# EAGLE library part A2F500M3G (library MainBoard)
A2F500M3G FG256 SmartFusion A2F500M3G device in FG256 package with organized block symbols Sources: A2F500M3-FG256 BSDL <http://www.actel.com/documents/bsdl/A2F200M3F_FG256.bsd> Package Mechanical Drawings <http://www.actel.com/documents/PckgMechDrwngs.pdf> SmartFusion Intelligent Mixed Signal FPGAs Datasheet <http://www.actel.com/documents/SmartFusion_DS.pdf>
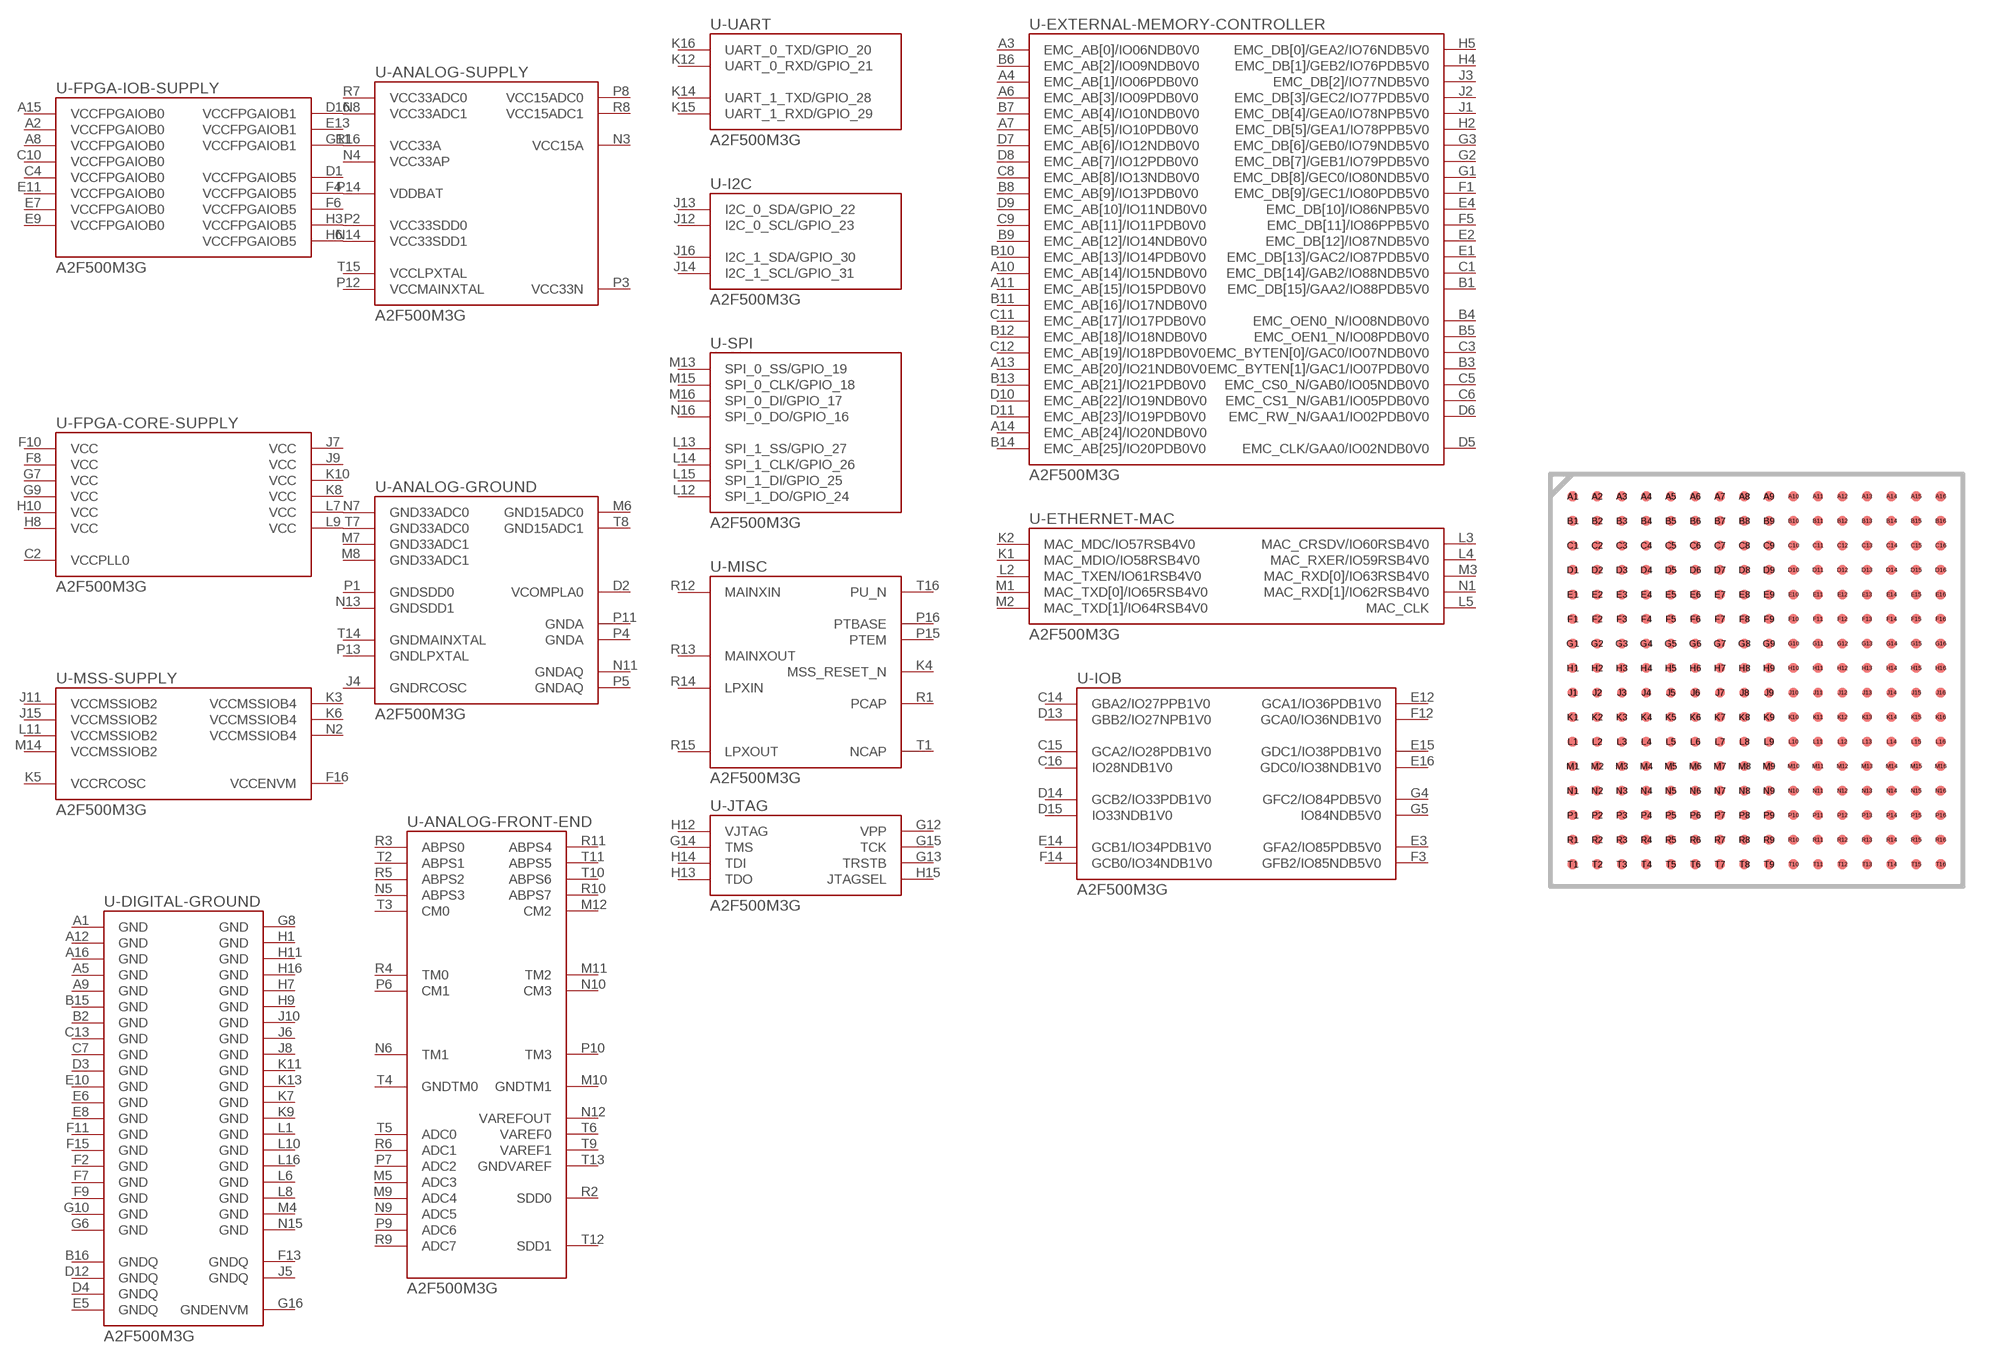
[diagram p3: symbol with the pads of FG256; footprint FG256]

Designator prefix U; gates -FPGA-IOB-SUPPLY=A2F500M3G-FPGA-IOB-SUPPLY -FPGA-CORE-SUPPLY=A2F500M3G-FPGA-CORE-SUPPLY -MSS-SUPPLY=A2F500M3G-MSS-SUPPLY -DIGITAL-GROUND=A2F500M3G-DIGITAL-GROUND -ANALOG-SUPPLY=A2F500M3G-ANALOG-SUPPLY -ANALOG-GROUND=A2F500M3G-ANALOG-GROUND -MISC=A2F500M3G-MISC -ANALOG-FRONT-END=A2F500M3G-ADC-DAC -JTAG=A2F500M3G-JTAG -EXTERNAL-MEMORY-CONTROLLER=A2F500M3G-EMC -UART=A2F500M3G-UART -I2C=A2F500M3G-I2C -SPI=A2F500M3G-SPI -ETHERNET-MAC=A2F500M3G-ETHERNET-MAC -IOB=A2F500M3G-IOB

## A2F500M3G-FGG256 (DIGI-KEY#: 1100-1009-ND; MF: Microsemi; MPN: A2F500M3G-FGG256; SPEED: 80 MHz), A2F500M3G-1FGG256 (DIGI-KEY#: 1100-1007-ND; MF: Microsemi; MPN: A2F500M3G-1FGG256; SPEED: 100 MHz)  [FG256]
A1  -DIGITAL-GROUND:GND  pwr
A2  -FPGA-IOB-SUPPLY:VCCFPGAIOB0  pwr
A3  -EXTERNAL-MEMORY-CONTROLLER:EMC_AB[0]/IO06NDB0V0
A4  -EXTERNAL-MEMORY-CONTROLLER:EMC_AB[1]/IO06PDB0V0
A5  -DIGITAL-GROUND:GND  pwr
A6  -EXTERNAL-MEMORY-CONTROLLER:EMC_AB[3]/IO09PDB0V0
A7  -EXTERNAL-MEMORY-CONTROLLER:EMC_AB[5]/IO10PDB0V0
A8  -FPGA-IOB-SUPPLY:VCCFPGAIOB0  pwr
A9  -DIGITAL-GROUND:GND  pwr
A10  -EXTERNAL-MEMORY-CONTROLLER:EMC_AB[14]/IO15NDB0V0
A11  -EXTERNAL-MEMORY-CONTROLLER:EMC_AB[15]/IO15PDB0V0
A12  -DIGITAL-GROUND:GND  pwr
A13  -EXTERNAL-MEMORY-CONTROLLER:EMC_AB[20]/IO21NDB0V0
A14  -EXTERNAL-MEMORY-CONTROLLER:EMC_AB[24]/IO20NDB0V0
A15  -FPGA-IOB-SUPPLY:VCCFPGAIOB0  pwr
A16  -DIGITAL-GROUND:GND  pwr
B1  -EXTERNAL-MEMORY-CONTROLLER:EMC_DB[15]/GAA2/IO88PDB5V0
B2  -DIGITAL-GROUND:GND  pwr
B3  -EXTERNAL-MEMORY-CONTROLLER:EMC_BYTEN[1]/GAC1/IO07PDB0V0
B4  -EXTERNAL-MEMORY-CONTROLLER:EMC_OEN0_N/IO08NDB0V0
B5  -EXTERNAL-MEMORY-CONTROLLER:EMC_OEN1_N/IO08PDB0V0
B6  -EXTERNAL-MEMORY-CONTROLLER:EMC_AB[2]/IO09NDB0V0
B7  -EXTERNAL-MEMORY-CONTROLLER:EMC_AB[4]/IO10NDB0V0
B8  -EXTERNAL-MEMORY-CONTROLLER:EMC_AB[9]/IO13PDB0V0
B9  -EXTERNAL-MEMORY-CONTROLLER:EMC_AB[12]/IO14NDB0V0
B10  -EXTERNAL-MEMORY-CONTROLLER:EMC_AB[13]/IO14PDB0V0
B11  -EXTERNAL-MEMORY-CONTROLLER:EMC_AB[16]/IO17NDB0V0
B12  -EXTERNAL-MEMORY-CONTROLLER:EMC_AB[18]/IO18NDB0V0
B13  -EXTERNAL-MEMORY-CONTROLLER:EMC_AB[21]/IO21PDB0V0
B14  -EXTERNAL-MEMORY-CONTROLLER:EMC_AB[25]/IO20PDB0V0
B15  -DIGITAL-GROUND:GND  pwr
B16  -DIGITAL-GROUND:GNDQ  pwr
C1  -EXTERNAL-MEMORY-CONTROLLER:EMC_DB[14]/GAB2/IO88NDB5V0
C2  -FPGA-CORE-SUPPLY:VCCPLL0  pwr
C3  -EXTERNAL-MEMORY-CONTROLLER:EMC_BYTEN[0]/GAC0/IO07NDB0V0
C4  -FPGA-IOB-SUPPLY:VCCFPGAIOB0  pwr
C5  -EXTERNAL-MEMORY-CONTROLLER:EMC_CS0_N/GAB0/IO05NDB0V0
C6  -EXTERNAL-MEMORY-CONTROLLER:EMC_CS1_N/GAB1/IO05PDB0V0
C7  -DIGITAL-GROUND:GND  pwr
C8  -EXTERNAL-MEMORY-CONTROLLER:EMC_AB[8]/IO13NDB0V0
C9  -EXTERNAL-MEMORY-CONTROLLER:EMC_AB[11]/IO11PDB0V0
C10  -FPGA-IOB-SUPPLY:VCCFPGAIOB0  pwr
C11  -EXTERNAL-MEMORY-CONTROLLER:EMC_AB[17]/IO17PDB0V0
C12  -EXTERNAL-MEMORY-CONTROLLER:EMC_AB[19]/IO18PDB0V0
C13  -DIGITAL-GROUND:GND  pwr
C14  -IOB:GBA2/IO27PPB1V0
C15  -IOB:GCA2/IO28PDB1V0
C16  -IOB:IO28NDB1V0
D1  -FPGA-IOB-SUPPLY:VCCFPGAIOB5  pwr
D2  -ANALOG-GROUND:VCOMPLA0  pwr
D3  -DIGITAL-GROUND:GND  pwr
D4  -DIGITAL-GROUND:GNDQ  pwr
D5  -EXTERNAL-MEMORY-CONTROLLER:EMC_CLK/GAA0/IO02NDB0V0
D6  -EXTERNAL-MEMORY-CONTROLLER:EMC_RW_N/GAA1/IO02PDB0V0
D7  -EXTERNAL-MEMORY-CONTROLLER:EMC_AB[6]/IO12NDB0V0
D8  -EXTERNAL-MEMORY-CONTROLLER:EMC_AB[7]/IO12PDB0V0
D9  -EXTERNAL-MEMORY-CONTROLLER:EMC_AB[10]/IO11NDB0V0
D10  -EXTERNAL-MEMORY-CONTROLLER:EMC_AB[22]/IO19NDB0V0
D11  -EXTERNAL-MEMORY-CONTROLLER:EMC_AB[23]/IO19PDB0V0
D12  -DIGITAL-GROUND:GNDQ  pwr
D13  -IOB:GBB2/IO27NPB1V0
D14  -IOB:GCB2/IO33PDB1V0
D15  -IOB:IO33NDB1V0
D16  -FPGA-IOB-SUPPLY:VCCFPGAIOB1  pwr
E1  -EXTERNAL-MEMORY-CONTROLLER:EMC_DB[13]/GAC2/IO87PDB5V0
E2  -EXTERNAL-MEMORY-CONTROLLER:EMC_DB[12]/IO87NDB5V0
E3  -IOB:GFA2/IO85PDB5V0
E4  -EXTERNAL-MEMORY-CONTROLLER:EMC_DB[10]/IO86NPB5V0
E5  -DIGITAL-GROUND:GNDQ  pwr
E6  -DIGITAL-GROUND:GND  pwr
E7  -FPGA-IOB-SUPPLY:VCCFPGAIOB0  pwr
E8  -DIGITAL-GROUND:GND  pwr
E9  -FPGA-IOB-SUPPLY:VCCFPGAIOB0  pwr
E10  -DIGITAL-GROUND:GND  pwr
E11  -FPGA-IOB-SUPPLY:VCCFPGAIOB0  pwr
E12  -IOB:GCA1/IO36PDB1V0
E13  -FPGA-IOB-SUPPLY:VCCFPGAIOB1  pwr
E14  -IOB:GCB1/IO34PDB1V0
E15  -IOB:GDC1/IO38PDB1V0
E16  -IOB:GDC0/IO38NDB1V0
F1  -EXTERNAL-MEMORY-CONTROLLER:EMC_DB[9]/GEC1/IO80PDB5V0
F2  -DIGITAL-GROUND:GND  pwr
F3  -IOB:GFB2/IO85NDB5V0
F4  -FPGA-IOB-SUPPLY:VCCFPGAIOB5  pwr
F5  -EXTERNAL-MEMORY-CONTROLLER:EMC_DB[11]/IO86PPB5V0
F6  -FPGA-IOB-SUPPLY:VCCFPGAIOB5  pwr
F7  -DIGITAL-GROUND:GND  pwr
F8  -FPGA-CORE-SUPPLY:VCC  pwr
F9  -DIGITAL-GROUND:GND  pwr
F10  -FPGA-CORE-SUPPLY:VCC  pwr
F11  -DIGITAL-GROUND:GND  pwr
F12  -IOB:GCA0/IO36NDB1V0
F13  -DIGITAL-GROUND:GNDQ  pwr
F14  -IOB:GCB0/IO34NDB1V0
F15  -DIGITAL-GROUND:GND  pwr
F16  -MSS-SUPPLY:VCCENVM  pwr
G1  -EXTERNAL-MEMORY-CONTROLLER:EMC_DB[8]/GEC0/IO80NDB5V0
G2  -EXTERNAL-MEMORY-CONTROLLER:EMC_DB[7]/GEB1/IO79PDB5V0
G3  -EXTERNAL-MEMORY-CONTROLLER:EMC_DB[6]/GEB0/IO79NDB5V0
G4  -IOB:GFC2/IO84PDB5V0
G5  -IOB:IO84NDB5V0
G6  -DIGITAL-GROUND:GND  pwr
G7  -FPGA-CORE-SUPPLY:VCC  pwr
G8  -DIGITAL-GROUND:GND  pwr
G9  -FPGA-CORE-SUPPLY:VCC  pwr
G10  -DIGITAL-GROUND:GND  pwr
G11  -FPGA-IOB-SUPPLY:VCCFPGAIOB1  pwr
G12  -JTAG:VPP  pas
G13  -JTAG:TRSTB  in
G14  -JTAG:TMS  in
G15  -JTAG:TCK  in
G16  -DIGITAL-GROUND:GNDENVM  pwr
H1  -DIGITAL-GROUND:GND  pwr
H2  -EXTERNAL-MEMORY-CONTROLLER:EMC_DB[5]/GEA1/IO78PPB5V0
H3  -FPGA-IOB-SUPPLY:VCCFPGAIOB5  pwr
H4  -EXTERNAL-MEMORY-CONTROLLER:EMC_DB[1]/GEB2/IO76PDB5V0
H5  -EXTERNAL-MEMORY-CONTROLLER:EMC_DB[0]/GEA2/IO76NDB5V0
H6  -FPGA-IOB-SUPPLY:VCCFPGAIOB5  pwr
H7  -DIGITAL-GROUND:GND  pwr
H8  -FPGA-CORE-SUPPLY:VCC  pwr
H9  -DIGITAL-GROUND:GND  pwr
H10  -FPGA-CORE-SUPPLY:VCC  pwr
H11  -DIGITAL-GROUND:GND  pwr
H12  -JTAG:VJTAG  pas
H13  -JTAG:TDO  out
H14  -JTAG:TDI  in
H15  -JTAG:JTAGSEL  pas
H16  -DIGITAL-GROUND:GND  pwr
J1  -EXTERNAL-MEMORY-CONTROLLER:EMC_DB[4]/GEA0/IO78NPB5V0
J2  -EXTERNAL-MEMORY-CONTROLLER:EMC_DB[3]/GEC2/IO77PDB5V0
J3  -EXTERNAL-MEMORY-CONTROLLER:EMC_DB[2]/IO77NDB5V0
J4  -ANALOG-GROUND:GNDRCOSC  pwr
J5  -DIGITAL-GROUND:GNDQ  pwr
J6  -DIGITAL-GROUND:GND  pwr
J7  -FPGA-CORE-SUPPLY:VCC  pwr
J8  -DIGITAL-GROUND:GND  pwr
J9  -FPGA-CORE-SUPPLY:VCC  pwr
J10  -DIGITAL-GROUND:GND  pwr
J11  -MSS-SUPPLY:VCCMSSIOB2  pwr
J12  -I2C:I2C_0_SCL/GPIO_23
J13  -I2C:I2C_0_SDA/GPIO_22
J14  -I2C:I2C_1_SCL/GPIO_31
J15  -MSS-SUPPLY:VCCMSSIOB2  pwr
J16  -I2C:I2C_1_SDA/GPIO_30
K1  -ETHERNET-MAC:MAC_MDIO/IO58RSB4V0
K2  -ETHERNET-MAC:MAC_MDC/IO57RSB4V0  out
K3  -MSS-SUPPLY:VCCMSSIOB4  pwr
K4  -MISC:MSS_RESET_N  oc
K5  -MSS-SUPPLY:VCCRCOSC  pwr
K6  -MSS-SUPPLY:VCCMSSIOB4  pwr
K7  -DIGITAL-GROUND:GND  pwr
K8  -FPGA-CORE-SUPPLY:VCC  pwr
K9  -DIGITAL-GROUND:GND  pwr
K10  -FPGA-CORE-SUPPLY:VCC  pwr
K11  -DIGITAL-GROUND:GND  pwr
K12  -UART:UART_0_RXD/GPIO_21
K13  -DIGITAL-GROUND:GND  pwr
K14  -UART:UART_1_TXD/GPIO_28
K15  -UART:UART_1_RXD/GPIO_29
K16  -UART:UART_0_TXD/GPIO_20
L1  -DIGITAL-GROUND:GND  pwr
L2  -ETHERNET-MAC:MAC_TXEN/IO61RSB4V0  out
L3  -ETHERNET-MAC:MAC_CRSDV/IO60RSB4V0  in
L4  -ETHERNET-MAC:MAC_RXER/IO59RSB4V0  in
L5  -ETHERNET-MAC:MAC_CLK  in
L6  -DIGITAL-GROUND:GND  pwr
L7  -FPGA-CORE-SUPPLY:VCC  pwr
L8  -DIGITAL-GROUND:GND  pwr
L9  -FPGA-CORE-SUPPLY:VCC  pwr
L10  -DIGITAL-GROUND:GND  pwr
L11  -MSS-SUPPLY:VCCMSSIOB2  pwr
L12  -SPI:SPI_1_DO/GPIO_24
L13  -SPI:SPI_1_SS/GPIO_27
L14  -SPI:SPI_1_CLK/GPIO_26
L15  -SPI:SPI_1_DI/GPIO_25
L16  -DIGITAL-GROUND:GND  pwr
M1  -ETHERNET-MAC:MAC_TXD[0]/IO65RSB4V0  out
M2  -ETHERNET-MAC:MAC_TXD[1]/IO64RSB4V0  out
M3  -ETHERNET-MAC:MAC_RXD[0]/IO63RSB4V0  in
M4  -DIGITAL-GROUND:GND  pwr
M5  -ANALOG-FRONT-END:ADC3  in
M6  -ANALOG-GROUND:GND15ADC0  pwr
M7  -ANALOG-GROUND:GND33ADC1  pwr
M8  -ANALOG-GROUND:GND33ADC1  pwr
M9  -ANALOG-FRONT-END:ADC4  in
M10  -ANALOG-FRONT-END:GNDTM1  pwr
M11  -ANALOG-FRONT-END:TM2  pas
M12  -ANALOG-FRONT-END:CM2  pas
M13  -SPI:SPI_0_SS/GPIO_19
M14  -MSS-SUPPLY:VCCMSSIOB2  pwr
M15  -SPI:SPI_0_CLK/GPIO_18
M16  -SPI:SPI_0_DI/GPIO_17
N1  -ETHERNET-MAC:MAC_RXD[1]/IO62RSB4V0  in
N2  -MSS-SUPPLY:VCCMSSIOB4  pwr
N3  -ANALOG-SUPPLY:VCC15A  pwr
N4  -ANALOG-SUPPLY:VCC33AP  pwr
N5  -ANALOG-FRONT-END:ABPS3  pas
N6  -ANALOG-FRONT-END:TM1  pas
N7  -ANALOG-GROUND:GND33ADC0  pwr
N8  -ANALOG-SUPPLY:VCC33ADC1  pwr
N9  -ANALOG-FRONT-END:ADC5  in
N10  -ANALOG-FRONT-END:CM3  pas
N11  -ANALOG-GROUND:GNDAQ  pwr
N12  -ANALOG-FRONT-END:VAREFOUT  pas
N13  -ANALOG-GROUND:GNDSDD1  pwr
N14  -ANALOG-SUPPLY:VCC33SDD1  pwr
N15  -DIGITAL-GROUND:GND  pwr
N16  -SPI:SPI_0_DO/GPIO_16
P1  -ANALOG-GROUND:GNDSDD0  pwr
P2  -ANALOG-SUPPLY:VCC33SDD0  pwr
P3  -ANALOG-SUPPLY:VCC33N  pwr
P4  -ANALOG-GROUND:GNDA  pwr
P5  -ANALOG-GROUND:GNDAQ  pwr
P6  -ANALOG-FRONT-END:CM1  pas
P7  -ANALOG-FRONT-END:ADC2  in
P8  -ANALOG-SUPPLY:VCC15ADC0  pwr
P9  -ANALOG-FRONT-END:ADC6  in
P10  -ANALOG-FRONT-END:TM3  pas
P11  -ANALOG-GROUND:GNDA  pwr
P12  -ANALOG-SUPPLY:VCCMAINXTAL  pwr
P13  -ANALOG-GROUND:GNDLPXTAL  pwr
P14  -ANALOG-SUPPLY:VDDBAT  pwr
P15  -MISC:PTEM  in
P16  -MISC:PTBASE  out
R1  -MISC:PCAP  pas
R2  -ANALOG-FRONT-END:SDD0  pas
R3  -ANALOG-FRONT-END:ABPS0  pas
R4  -ANALOG-FRONT-END:TM0  pas
R5  -ANALOG-FRONT-END:ABPS2  pas
R6  -ANALOG-FRONT-END:ADC1  in
R7  -ANALOG-SUPPLY:VCC33ADC0  pwr
R8  -ANALOG-SUPPLY:VCC15ADC1  pwr
R9  -ANALOG-FRONT-END:ADC7  in
R10  -ANALOG-FRONT-END:ABPS7  pas
R11  -ANALOG-FRONT-END:ABPS4  pas
R12  -MISC:MAINXIN  pas
R13  -MISC:MAINXOUT  pas
R14  -MISC:LPXIN  pas
R15  -MISC:LPXOUT  pas
R16  -ANALOG-SUPPLY:VCC33A  pwr
T1  -MISC:NCAP  pas
T2  -ANALOG-FRONT-END:ABPS1  pas
T3  -ANALOG-FRONT-END:CM0  pas
T4  -ANALOG-FRONT-END:GNDTM0  pwr
T5  -ANALOG-FRONT-END:ADC0  in
T6  -ANALOG-FRONT-END:VAREF0  pas
T7  -ANALOG-GROUND:GND33ADC0  pwr
T8  -ANALOG-GROUND:GND15ADC1  pwr
T9  -ANALOG-FRONT-END:VAREF1  pas
T10  -ANALOG-FRONT-END:ABPS6  pas
T11  -ANALOG-FRONT-END:ABPS5  pas
T12  -ANALOG-FRONT-END:SDD1  pas
T13  -ANALOG-FRONT-END:GNDVAREF  pwr
T14  -ANALOG-GROUND:GNDMAINXTAL  pwr
T15  -ANALOG-SUPPLY:VCCLPXTAL  pwr
T16  -MISC:PU_N  in

## Footprint FG256 (pad centres in mm)
FG256 Fine Pitch Ball Grid Array (1.0 mm pitch) 256-pin Package Auto generated by make-symbol-device-package-bsdl.ulp Rev. 34 Source: http://www.actel.com/documents/bsdl/A2F500M3G_FG256.bsd Parameters updated based on Actel's recommended BGA layout drawings Source: http://www.actel.com/documents/RecPCBdesign.pdf
smd 0.4 x 0.4: A1 -7.5,7.5; A2 -6.5,7.5; A3 -5.5,7.5; A4 -4.5,7.5; A5 -3.5,7.5; A6 -2.5,7.5; A7 -1.5,7.5; A8 -0.5,7.5; A9 0.5,7.5; A10 1.5,7.5; A11 2.5,7.5; A12 3.5,7.5; A13 4.5,7.5; A14 5.5,7.5; A15 6.5,7.5; A16 7.5,7.5; B1 -7.5,6.5; B2 -6.5,6.5; B3 -5.5,6.5; B4 -4.5,6.5; B5 -3.5,6.5; B6 -2.5,6.5; B7 -1.5,6.5; B8 -0.5,6.5; B9 0.5,6.5; B10 1.5,6.5; B11 2.5,6.5; B12 3.5,6.5; B13 4.5,6.5; B14 5.5,6.5; B15 6.5,6.5; B16 7.5,6.5; C1 -7.5,5.5; C2 -6.5,5.5; C3 -5.5,5.5; C4 -4.5,5.5; C5 -3.5,5.5; C6 -2.5,5.5; C7 -1.5,5.5; C8 -0.5,5.5; C9 0.5,5.5; C10 1.5,5.5; C11 2.5,5.5; C12 3.5,5.5; C13 4.5,5.5; C14 5.5,5.5; C15 6.5,5.5; C16 7.5,5.5; D1 -7.5,4.5; D2 -6.5,4.5; D3 -5.5,4.5; D4 -4.5,4.5; D5 -3.5,4.5; D6 -2.5,4.5; D7 -1.5,4.5; D8 -0.5,4.5; D9 0.5,4.5; D10 1.5,4.5; D11 2.5,4.5; D12 3.5,4.5; D13 4.5,4.5; D14 5.5,4.5; D15 6.5,4.5; D16 7.5,4.5; E1 -7.5,3.5; E2 -6.5,3.5; E3 -5.5,3.5; E4 -4.5,3.5; E5 -3.5,3.5; E6 -2.5,3.5; E7 -1.5,3.5; E8 -0.5,3.5; E9 0.5,3.5; E10 1.5,3.5; E11 2.5,3.5; E12 3.5,3.5; E13 4.5,3.5; E14 5.5,3.5; E15 6.5,3.5; E16 7.5,3.5; F1 -7.5,2.5; F2 -6.5,2.5; F3 -5.5,2.5; F4 -4.5,2.5; F5 -3.5,2.5; F6 -2.5,2.5; F7 -1.5,2.5; F8 -0.5,2.5; F9 0.5,2.5; F10 1.5,2.5; F11 2.5,2.5; F12 3.5,2.5; F13 4.5,2.5; F14 5.5,2.5; F15 6.5,2.5; F16 7.5,2.5; G1 -7.5,1.5; G2 -6.5,1.5; G3 -5.5,1.5; G4 -4.5,1.5; G5 -3.5,1.5; G6 -2.5,1.5; G7 -1.5,1.5; G8 -0.5,1.5; G9 0.5,1.5; G10 1.5,1.5; G11 2.5,1.5; G12 3.5,1.5; G13 4.5,1.5; G14 5.5,1.5; G15 6.5,1.5; G16 7.5,1.5; H1 -7.5,0.5; H2 -6.5,0.5; H3 -5.5,0.5; H4 -4.5,0.5; H5 -3.5,0.5; H6 -2.5,0.5; H7 -1.5,0.5; H8 -0.5,0.5; H9 0.5,0.5; H10 1.5,0.5; H11 2.5,0.5; H12 3.5,0.5; H13 4.5,0.5; H14 5.5,0.5; H15 6.5,0.5; H16 7.5,0.5; J1 -7.5,-0.5; J2 -6.5,-0.5; J3 -5.5,-0.5; J4 -4.5,-0.5; J5 -3.5,-0.5; J6 -2.5,-0.5; J7 -1.5,-0.5; J8 -0.5,-0.5; J9 0.5,-0.5; J10 1.5,-0.5; J11 2.5,-0.5; J12 3.5,-0.5; J13 4.5,-0.5; J14 5.5,-0.5; J15 6.5,-0.5; J16 7.5,-0.5; K1 -7.5,-1.5; K2 -6.5,-1.5; K3 -5.5,-1.5; K4 -4.5,-1.5; K5 -3.5,-1.5; K6 -2.5,-1.5; K7 -1.5,-1.5; K8 -0.5,-1.5; K9 0.5,-1.5; K10 1.5,-1.5; K11 2.5,-1.5; K12 3.5,-1.5; K13 4.5,-1.5; K14 5.5,-1.5; K15 6.5,-1.5; K16 7.5,-1.5; L1 -7.5,-2.5; L2 -6.5,-2.5; L3 -5.5,-2.5; L4 -4.5,-2.5; L5 -3.5,-2.5; L6 -2.5,-2.5; L7 -1.5,-2.5; L8 -0.5,-2.5; L9 0.5,-2.5; L10 1.5,-2.5; L11 2.5,-2.5; L12 3.5,-2.5; L13 4.5,-2.5; L14 5.5,-2.5; L15 6.5,-2.5; L16 7.5,-2.5; M1 -7.5,-3.5; M2 -6.5,-3.5; M3 -5.5,-3.5; M4 -4.5,-3.5; M5 -3.5,-3.5; M6 -2.5,-3.5; M7 -1.5,-3.5; M8 -0.5,-3.5; M9 0.5,-3.5; M10 1.5,-3.5; M11 2.5,-3.5; M12 3.5,-3.5; M13 4.5,-3.5; M14 5.5,-3.5; M15 6.5,-3.5; M16 7.5,-3.5; N1 -7.5,-4.5; N2 -6.5,-4.5; N3 -5.5,-4.5; N4 -4.5,-4.5; N5 -3.5,-4.5; N6 -2.5,-4.5; N7 -1.5,-4.5; N8 -0.5,-4.5; N9 0.5,-4.5; N10 1.5,-4.5; N11 2.5,-4.5; N12 3.5,-4.5; N13 4.5,-4.5; N14 5.5,-4.5; N15 6.5,-4.5; N16 7.5,-4.5; P1 -7.5,-5.5; P2 -6.5,-5.5; P3 -5.5,-5.5; P4 -4.5,-5.5; P5 -3.5,-5.5; P6 -2.5,-5.5; P7 -1.5,-5.5; P8 -0.5,-5.5; P9 0.5,-5.5; P10 1.5,-5.5; P11 2.5,-5.5; P12 3.5,-5.5; P13 4.5,-5.5; P14 5.5,-5.5; P15 6.5,-5.5; P16 7.5,-5.5; R1 -7.5,-6.5; R2 -6.5,-6.5; R3 -5.5,-6.5; R4 -4.5,-6.5; R5 -3.5,-6.5; R6 -2.5,-6.5; R7 -1.5,-6.5; R8 -0.5,-6.5; R9 0.5,-6.5; R10 1.5,-6.5; R11 2.5,-6.5; R12 3.5,-6.5; R13 4.5,-6.5; R14 5.5,-6.5; R15 6.5,-6.5; R16 7.5,-6.5; T1 -7.5,-7.5; T2 -6.5,-7.5; T3 -5.5,-7.5; T4 -4.5,-7.5; T5 -3.5,-7.5; T6 -2.5,-7.5; T7 -1.5,-7.5; T8 -0.5,-7.5; T9 0.5,-7.5; T10 1.5,-7.5; T11 2.5,-7.5; T12 3.5,-7.5; T13 4.5,-7.5; T14 5.5,-7.5; T15 6.5,-7.5; T16 7.5,-7.5